# Altium schematic symbol library Schlib2.SchLib: 17 symbols
Pins are listed as number, name and electrical type; pins without a type are passive.

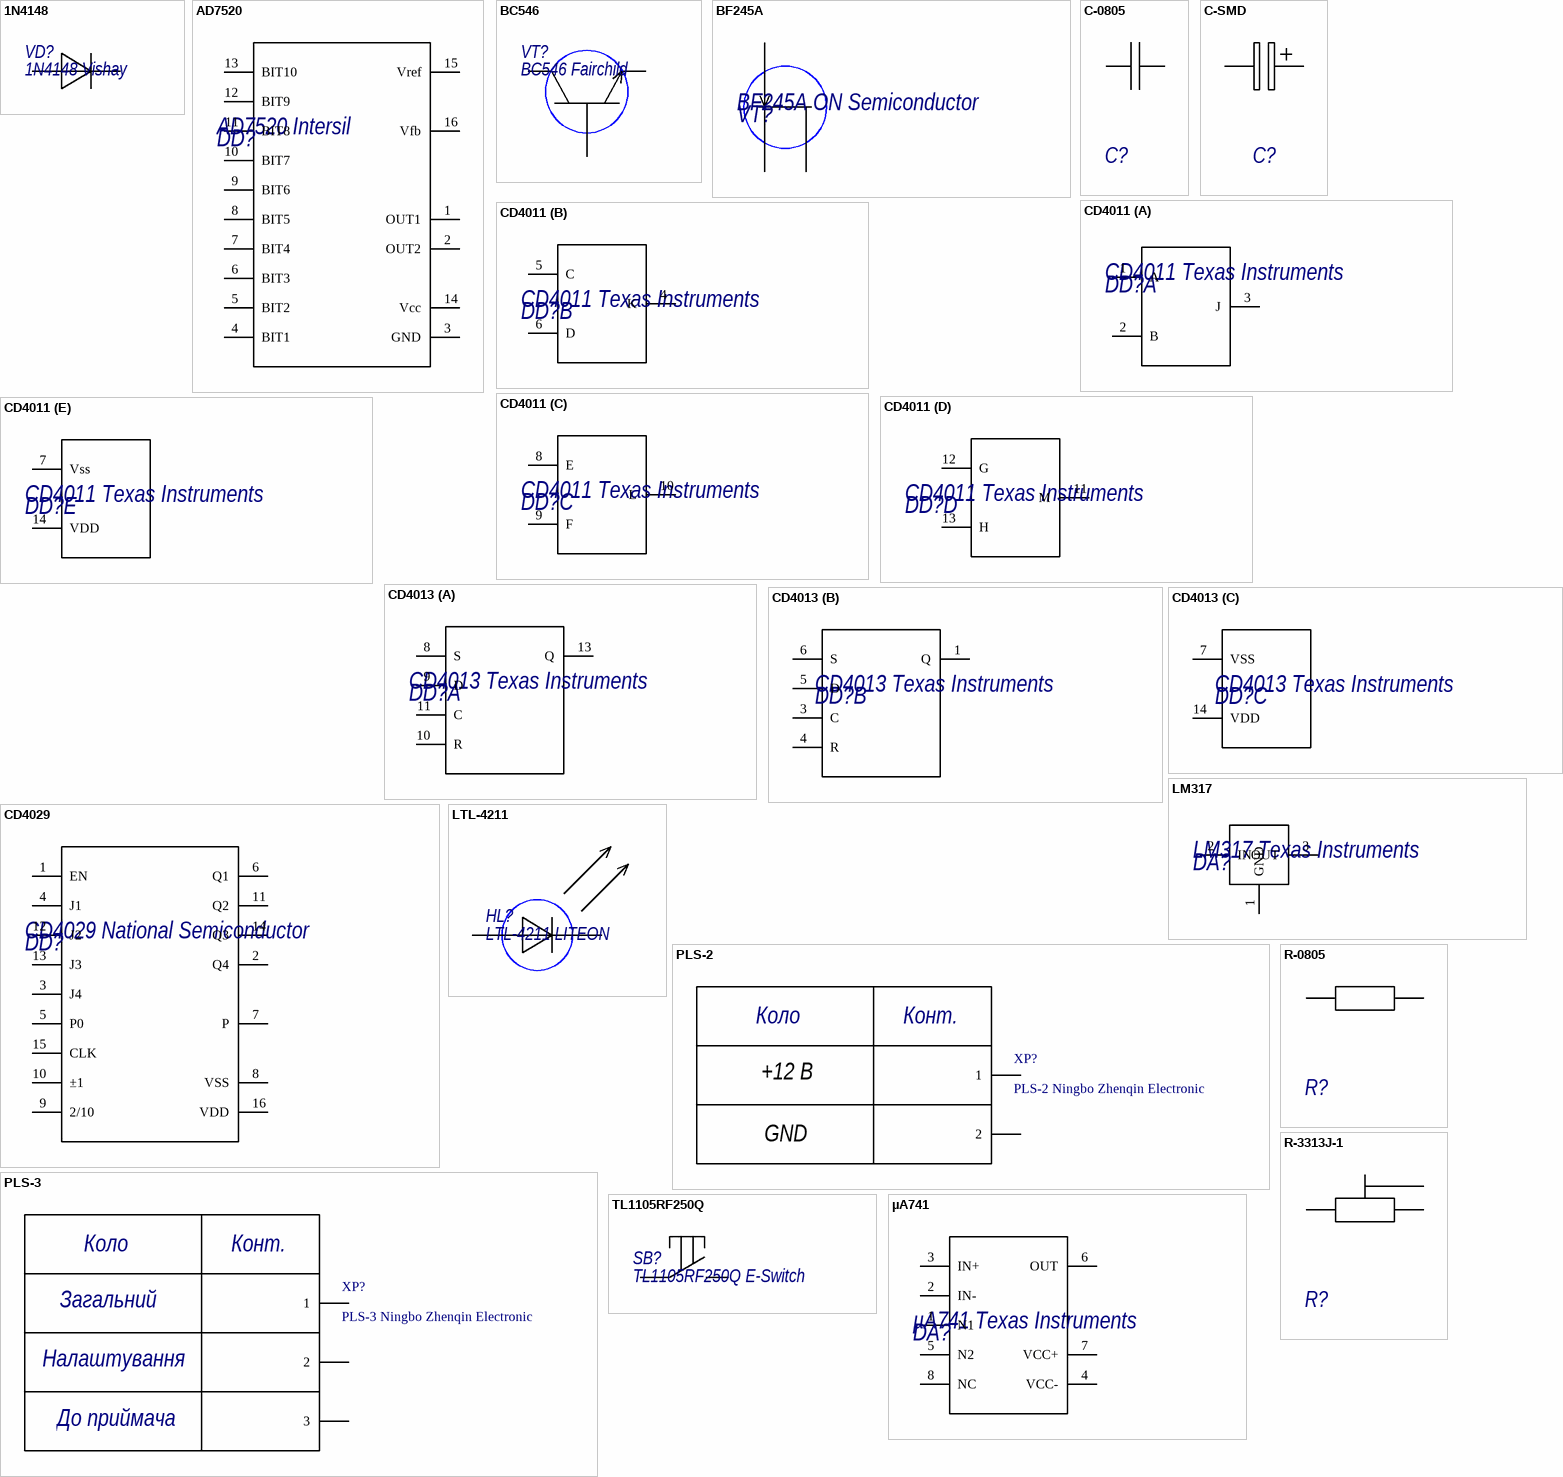
[diagram p0: symbols 1N4148 to µA741]

## 1N4148
designator VD?, comment 1N4148 Vishay
1N4148; Manufacturer: Vishay; Name: 1N4148
footprint SOD123
pins: 1, 2

## AD7520
designator DD?, comment AD7520 Intersil
AD7520; Name: AD7520; Manufacturer: Intersil
pins: 1 OUT1, 2 OUT2, 3 GND, 4 BIT1, 5 BIT2, 6 BIT3, 7 BIT4, 8 BIT5, 9 BIT6, 10 BIT7, 11 BIT8, 12 BIT9, 13 BIT10, 14 Vcc, 15 Vref, 16 Vfb

## BC546
designator VT?, comment BC546 Fairchild
BC546; Manufacturer: Fairchild; Name: BC546
footprint SOT23 (SOT23, 3-Leads, Body 2,90x2,45mm, Pitch 0,95mm, IPC Medium Density)
pins: 1, 2, 3

## BF245A
designator VT?, comment BF245A ON Semiconductor
BF245A; Name: BF245A; Manufacturer: ON Semiconductor
pins: 1, 2, 3

## C-0805
designator C?, comment С-0805 50 В * 5% X7R Kemet  (value not drawn)
C-0805; Voltage: 50 В; Value: *; Package: С-0805; Temp_Coef: X7R; Tolerance: 5%; Manufacturer: Kemet
footprint C-0805 (capacitor 0805 reflow soldering)
pins: 1, 2

## C-SMD
designator C?, comment С-SMD 16 В * 20% * Kemet  (value not drawn)
C-SMD; Voltage: 16 В; Value: *; Package: С-SMD; Temp_Coef: *; Tolerance: 20%; Manufacturer: Kemet
footprint C-0805 (capacitor 0805 reflow soldering)
pins: 1, 2

## CD4011
designator DD?, comment CD4011 Texas Instruments
CD4011; Name: CD4011; Manufacturer: Texas Instruments
part A pins: 1 A, 2 B, 3 J
part B pins: 4 K, 5 C, 6 D
part C pins: 8 E, 9 F, 10 L
part D pins: 11 M, 12 G, 13 H
part E pins: 7 Vss, 14 VDD

## CD4013
designator DD?, comment CD4013 Texas Instruments
CD4013; Name: CD4013; Manufacturer: Texas Instruments
part A pins: 8 S, 9 D, 10 R, 11 C, 13 Q
part B pins: 1 Q, 3 C, 4 R, 5 D, 6 S
part C pins: 7 VSS, 14 VDD

## CD4029
designator DD?, comment CD4029 National Semiconductor
CD4029; Name: CD4029; Manufacturer: National Semiconductor
pins: 1 EN, 2 Q4, 3 J4, 4 J1, 5 P0, 6 Q1, 7 P, 8 VSS, 9 2/10, 10 ±1, 11 Q2, 12 J2, 13 J3, 14 Q3, 15 CLK, 16 VDD

## LM317
designator DA?, comment LM317 Texas Instruments
LM317; Name: LM317; Manufacturer: Texas Instruments
pins: 1 GND, 2 IN, 3 OUT

## LTL-4211
designator HL?, comment LTL-4211 LITEON
LTL-4211; Manufacturer: LITEON; Name: LTL-4211
footprint SOD123
pins: 1, 2

## PLS-2
designator XP?, comment PLS-2 Ningbo Zhenqin Electronic
PLS-2; Manufacturer: Ningbo Zhenqin Electronic; Name: PLS-2
footprint PLS-2
pins: 1, 2
text: Коло; Конт.; +12 В; GND

## PLS-3
designator XP?, comment PLS-3 Ningbo Zhenqin Electronic  (no BOM)
PLS-3; Manufacturer: Ningbo Zhenqin Electronic; Name: PLS-3
footprint PLS-2
pins: 1, 2, 3
text: Коло; Конт.; Загальний; Налаштування; До приймача

## R-0805
designator R?, comment R-0805 0,125 Вт * 5% Yageo  (value not drawn)
R-0805; Value: *; Package: R-0805; Power: 0,125 Вт; Tolerance: 5%; Manufacturer: Yageo
footprint R-0805 (resistor 0805)
pins: 1, 2

## R-3313J-1
designator R?, comment R-3313J-1 0,125 Вт * 20% Bourns  (value not drawn)
R-3313J-1; Value: *; Package: R-3313J-1; Power: 0,125 Вт; Tolerance: 20%; Manufacturer: Bourns
footprint R-0805 (resistor 0805)
pins: 1, 2, 3

## TL1105RF250Q
designator SB?, comment TL1105RF250Q E-Switch
TL1105RF250Q; Name: TL1105RF250Q; Manufacturer: E-Switch
footprint TL1105RF250Q
pins: 1, 2

## µA741
designator DA?, comment µA741 Texas Instruments
µA741; Name: µA741; Manufacturer: Texas Instruments
pins: 1 N1, 2 IN-, 3 IN+, 4 VCC-, 5 N2, 6 OUT, 7 VCC+, 8 NC